# Altium schematic symbol library GRM21BC8YA106ME11L.SchLib: 1 symbol
Pins are listed as number, name and electrical type; pins without a type are passive.

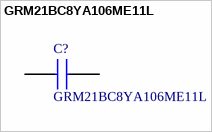
[diagram p0: symbol GRM21BC8YA106ME11L]

## GRM21BC8YA106ME11L
designator C?
Multilayer Ceramic Capacitors MLCC - SMD/SMT 0805 10uF 35volts *Derate Voltage/Temp; Manufacturer_Name: Murata Electronics; Geometry.Height: 1.45mm; Mouser Part Number: 81-GRM21BC8YA106ME1L; Mouser Price/Stock: https://www.mouser.co.uk/ProductDetail/Murata-Electronics/GRM21BC8YA106ME11L?qs=K0Sa7bCb58JXd%2FLXsBufTg%3D%3D; Manufacturer_Part_Number: GRM21BC8YA106ME11L; Datasheet Link: https://search.murata.co.jp/Ceramy/image/img/A01X/G101/ENG/GRM21BC8YA106ME11-01A.pdf
footprint CAPC2012X145N
pins: 1, 2